# EAGLE library part MPU-6050 (library FlashPCB_Sensors)
MPU-6050 - Accelerometer, Gyroscope, 6 Axis Sensor IÃƒÆ’Ã¢â‚¬Å¡Ãƒâ€šÃ‚Â²C Output Technical Specifications: Gyroscope range: +/-250deg/s to +/-2000deg/sec Accelerolmeter range: +/-2g to +/-16g Component Search: [DATA SHEET NAME] <[FLASHPCB URL]> Datasheet: MPU-6000-Datasheet1 <https://invensense.tdk.com/wp-content/uploads/2015/02/MPU-6000-Datasheet1.pdf>
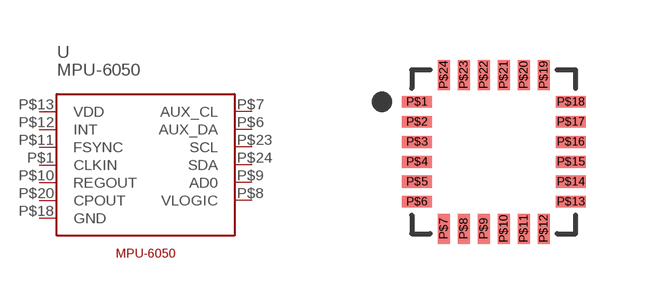
[diagram p18: symbol with the pads of 24-QFN(4X4)-MPU60X0; footprint 24-QFN(4X4)-MPU60X0]

Designator prefix U

## MPU-6050  [24-QFN(4X4)-MPU60X0]
P$1  CLKIN
P$6  AUX_DA
P$7  AUX_CL
P$8  VLOGIC  pwr
P$9  AD0
P$10  REGOUT  pwr
P$11  FSYNC
P$12  INT
P$13  VDD  pwr
P$18  GND  pwr
P$20  CPOUT
P$23  SCL
P$24  SDA

## Footprint 24-QFN(4X4)-MPU60X0 (pad centres in mm)
smd 0.75 x 0.3: P$1 -1.925,1.25; P$2 -1.925,0.75; P$3 -1.925,0.25; P$4 -1.925,-0.25; P$5 -1.925,-0.75; P$6 -1.925,-1.25; P$13 1.925,-1.25; P$14 1.925,-0.75; P$15 1.925,-0.25; P$16 1.925,0.25; P$17 1.925,0.75; P$18 1.925,1.25
smd 0.3 x 0.75: P$7 -1.25,-1.925; P$8 -0.75,-1.925; P$9 -0.25,-1.925; P$10 0.25,-1.925; P$11 0.75,-1.925; P$12 1.25,-1.925; P$19 1.25,1.925; P$20 0.75,1.925; P$21 0.25,1.925; P$22 -0.25,1.925; P$23 -0.75,1.925; P$24 -1.25,1.925